# Altium footprint library web.skorpio.PcbLib: 30 footprints (part 1 of 2)
Each footprint in its own frame and in the unit in brackets; x right, y up, seen from the top. Pads: shape width x height; smd on the part's side, far side on the other; paste and mask are expansions set on the pad; w line width, h text height; cw(c..) or ccw(c..) is an arc to the next point about the centre after c.
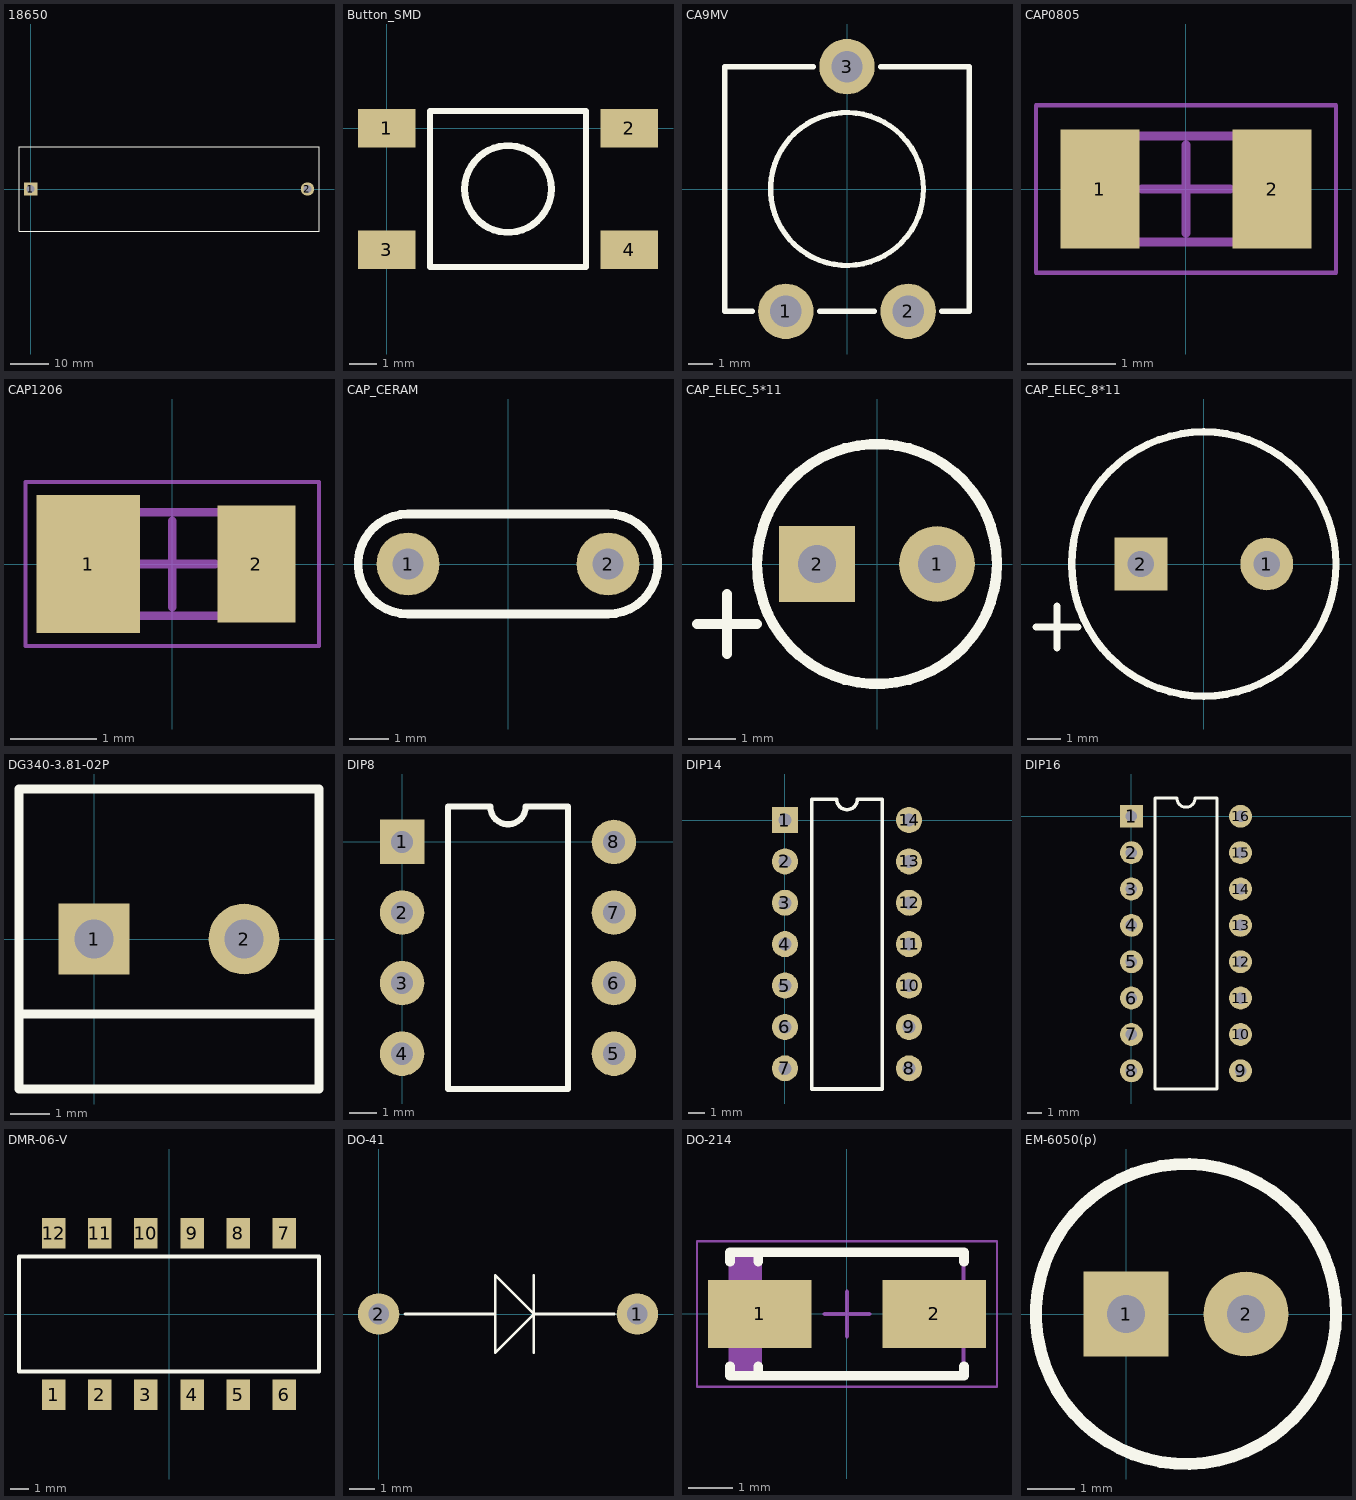
[diagram p0: the footprints below, top view; thin cyan lines are the x and y axes]

## 18650 [mm]
pads (2):
  rect 3.5x3.5 hole 2: 1(0,0)
  round 3.5 hole 2: 2(72,0)
Top Overlay:
  lines w0.22: -3,-11 -3,11 75,11 75,-11 -3,-11
3D body: height 7, standoff 0, extent -3,-11 75,-10
3D body: height 7, standoff 0, extent -3,10 75,11
3D body: height 21, standoff 0, extent 74,-11 75,11
3D body: height 21, standoff 0, extent -3,-11 -2,11
3D body: height 1, standoff 0, extent -3,-11 75,11

## Button_SMD [mm]
pads (4):
  rect 2.1x1.4 smd: 1(0,0) 2(8.89,0) 3(0,-4.445) 4(8.89,-4.445)
Top Overlay:
  circle w0.254: c4.445,-2.222 r1.587
  lines w0.22: 1.587,-5.08 7.302,-5.08 7.302,0.635 1.587,0.635 1.587,-5.08
3D body: height 3.3, standoff 0.1, extent 1.587,-5.08 7.302,0.635
3D body: height 3.6, standoff 3.3, extent 1.587,-5.08 7.302,0.635
3D body: height 4.3, standoff 0, extent 2.695,-3.973 6.195,-0.473
3D body: height 3.8, standoff 0, extent 1.727,-0.499 2.723,0.499
3D body: height 3.8, standoff 0, extent 6.172,-0.499 7.168,0.499
3D body: height 3.8, standoff 0, extent 6.172,-4.944 7.168,-3.946
3D body: height 3.8, standoff 0, extent 1.727,-4.944 2.723,-3.946

## CA9MV [mm]
pads (3):
  round 2.3 hole 1.3: 1(-2.54,-5.08) 2(2.54,-5.08) 3(0,5.08)
Top Overlay:
  circle w0.22: c0,0 r3.175
  lines w0.22: -3.937,-5.08 -5.08,-5.08 -5.08,5.08 -1.397,5.08 ; -1.143,-5.08 1.143,-5.08 ; 1.397,5.08 5.08,5.08 5.08,-5.08 3.937,-5.08
3D body "User Library-User Library-Trimpot Horizontal.step": height 6.5, standoff -3.3, extent -4.92,-5.08 5.08,5.12

## CAP0805 [mm] "Chip Capacitor, 2-Leads, Body 2,00x1,20mm, IPC Medium Density"
height 0.4
pads (2):
  rect 0.9x1.35 smd: 1(-0.975,0) 2(0.975,0)
Mechanical 13:
  lines w0.1: -1,-0.6 -1,0.6 1,0.6 1,-0.6 -1,-0.6
Mechanical 15:
  lines w0.05: -1.7,-0.95 -1.7,0.95 1.7,0.95 1.7,-0.95 -1.7,-0.95
  lines w0.1: -0.5,0 0.5,0 ; 0,-0.5 0,0.5
3D body: height 0.4, standoff 0, extent -0.6,-0.6 0.6,0.6
3D body: height 0.4, standoff 0, extent -1,-0.6 -0.6,0.6
3D body: height 0.4, standoff 0, extent 0.6,-0.6 1,0.6

## CAP1206 [mm] "Chip Capacitor"
height 0.4
pads (2):
  rect 1.2x1.6 smd: 1(-0.975,0)
  rect 0.9x1.35 smd: 2(0.975,0)
Mechanical 13:
  lines w0.1: -1,-0.6 1,-0.6 1,0.6 -1,0.6 -1,-0.6
Mechanical 15:
  lines w0.05: -1.7,-0.95 1.7,-0.95 1.7,0.95 -1.7,0.95 -1.7,-0.95
  lines w0.1: -0.5,0 0.5,0 ; 0,-0.5 0,0.5
3D body: height 0.4, standoff 0, extent 0.6,-0.6 1,0.6
3D body: height 0.4, standoff 0, extent -1,-0.6 -0.6,0.6
3D body: height 0.4, standoff 0, extent -0.6,-0.6 0.6,0.6

## CAP_CERAM [mm]
pads (2):
  round 1.6 hole 0.8: 1(-2.54,0) 2(2.54,0)
Top Overlay:
  lines w0.22: -2.54,-1.27 cw(c-2.54,0) -2.54,1.27 2.54,1.27 cw(c2.54,0) 2.54,-1.27 -2.54,-1.27
3D body "User Library-Ceramic Disc Capacitor 0_2in pitch.step": height 7.5, standoff -1, extent -3.499,-0.848 3.5,0.848

## CAP_ELEC_5*11 [mm]
pads (2):
  round 1.6 hole 0.8: 1(1.27,0)
  rect 1.6x1.6 hole 0.8: 2(-1.27,0)
Top Overlay:
  circle w0.22: c0,0 r2.54
  lines w0.22: -3.81,-1.27 -2.54,-1.27 ; -3.175,-1.905 -3.175,-0.635
3D body "User Library-Capacitor Electrolitico 5x11.step": height 11.9, standoff -1.7, extent -2.5,-2.5 2.5,2.5

## CAP_ELEC_8*11 [mm]
pads (2):
  round 1.6 hole 0.8: 1(1.905,0)
  rect 1.6x1.6 hole 0.8: 2(-1.905,0)
Top Overlay:
  circle w0.22: c0,0 r4
  lines w0.22: -5.08,-1.905 -3.81,-1.905 ; -4.445,-2.54 -4.445,-1.27
3D body "User Library-Cap-EL(8x11-3_5).step": height 11, standoff -3.3, extent -4,-3.998 4.002,3.998

## DG340-3.81-02P [mm]
pads (2):
  rect 1.8x1.8 hole 1: 1(0,0)
  round 1.8 hole 1: 2(3.81,0)
Top Overlay:
  lines w0.22: -1.905,-1.905 5.715,-1.905 ; -1.905,-3.81 5.715,-3.81 5.715,3.81 -1.905,3.81 -1.905,-3.81
3D body "User Library-KLS2-340-3_81-1.step": height 8.5, standoff -3.17, extent -2.43,-3.495 6.19,3.505

## DIP8 [mm]
pads (8):
  rect 1.6x1.6 hole 0.8: 1(0,0)
  round 1.6 hole 0.8: 2(0,-2.54) 3(0,-5.08) 4(0,-7.62) 5(7.62,-7.62) 6(7.62,-5.08) 7(7.62,-2.54) 8(7.62,0)
Top Overlay:
  lines w0.22: 1.655,-8.89 1.655,1.27 3.175,1.27 ccw(c3.81,1.27) 4.445,1.27 5.965,1.27 5.965,-8.89 1.655,-8.89
3D body "CircuitWorks-DIP8.step": height 4.19, standoff -2.67, extent -0.127,-9.398 7.747,2.032

## DIP14 [mm]
pads (14):
  rect 1.6x1.6 hole 0.8: 1(0,0)
  round 1.6 hole 0.8: 2(0,-2.54) 3(0,-5.08) 4(0,-7.62) 5(0,-10.16) 6(0,-12.7) 7(0,-15.24) 8(7.62,-15.24) 9(7.62,-12.7) 10(7.62,-10.16) 11(7.62,-7.62) 12(7.62,-5.08) 13(7.62,-2.54) 14(7.62,0)
Top Overlay:
  lines w0.22: 1.655,-16.51 1.655,1.27 3.175,1.27 ccw(c3.81,1.27) 4.445,1.27 5.965,1.27 5.965,-16.51 1.655,-16.51
3D body "CircuitWorks-DIP14.step": height 4.19, standoff -2.67, extent -0.127,-17.145 7.747,1.905

## DIP16 [mm]
pads (16):
  rect 1.6x1.6 hole 0.8: 1(0,0)
  round 1.6 hole 0.8: 2(0,-2.54) 3(0,-5.08) 4(0,-7.62) 5(0,-10.16) 6(0,-12.7) 7(0,-15.24) 8(0,-17.78) 9(7.62,-17.78) 10(7.62,-15.24) 11(7.62,-12.7) 12(7.62,-10.16) 13(7.62,-7.62) 14(7.62,-5.08) 15(7.62,-2.54) 16(7.62,0)
Top Overlay:
  lines w0.22: 1.655,-19.05 5.965,-19.05 5.965,1.27 4.445,1.27 cw(c3.81,1.27) 3.175,1.27 1.655,1.27 1.655,-19.05
3D body "CircuitWorks-DIP16.step": height 4.19, standoff -2.57, extent -0.127,-19.685 7.747,1.905

## DMR-06-V [mm]
pads (12):
  rect 1.3x1.7 smd: 1(-6.35,-4.445) 2(-3.81,-4.445) 3(-1.27,-4.445) 4(1.27,-4.445) 5(3.81,-4.445) 6(6.35,-4.445) 7(6.35,4.445) 8(3.81,4.445) 9(1.27,4.445) 10(-1.27,4.445) 11(-3.81,4.445) 12(-6.35,4.445)
Top Overlay:
  lines w0.22: -8.255,-3.175 -8.255,3.175 8.255,3.175 8.255,-3.175 -8.255,-3.175
3D body "User Library-DIP SW 6P.step": height 4.05, standoff -0.1, extent -8.355,-4.95 8.355,4.95

## DO-41 [mm]
pads (2):
  round 1.6 hole 0.8: 1(10,0) 2(0,0)
Top Overlay:
  lines w0.1: 1.016,0 2,0 4.5,0 ; 6,-1.5 6,1.5 ; 8.215,0 9.104,0 ; 8.5,0 6,0 ; 6,0 4.5,1.5 4.5,-1.5 6,0
3D body "User Library-DO-41 10mm.step": height 4.36, standoff -1, extent -0.5,-1.362 10.36,1.363

## DO-214 [mm] "Molded Diode, 2-Leads, Body 5,10x2,67mm, IPC Medium Density"
height 2.2
pads (2):
  rect 2.35x1.55 smd: 1(-1.975,0) 2(1.975,0)
Top Overlay:
  lines w0.22: -2.65,-1.185 -2.65,-1.4 2.65,-1.4 2.65,-1.185 ; -2.65,1.185 -2.65,1.4 2.65,1.4 2.65,1.185 ; -2.015,-1.4 -2.015,-1.185 ; -2.015,1.185 -2.015,1.4
Mechanical 13:
  rectangle: -2.64,-1.395 -1.93,1.395
  lines w0.1: -2.64,-1.395 2.64,-1.395 2.64,1.395 -2.64,1.395 -2.64,-1.395
Mechanical 15:
  lines w0.05: -3.4,-1.65 3.4,-1.65 3.4,1.65 -3.4,1.65 -3.4,-1.65
  lines w0.1: -0.5,0 0.5,0 ; 0,-0.5 0,0.5
3D body: height 2.2, standoff 0, extent -2.64,-1.395 2.64,1.395

## EM-6050(p) [mm]
pads (2):
  rect 1.8x1.8 hole 0.8: 1(0,0)
  round 1.8 hole 0.8: 2(2.54,0)
Top Overlay:
  circle w0.254: c1.27,0 r3.175
3D body: height 5, standoff 0, extent -1.73,-3 4.27,3
3D body: height 5.2, standoff 5, extent -1.53,-2.797 4.07,2.797